# Altium footprint library A3PE1500_ProAsic3.PcbLib: 1 footprints
Each footprint in its own frame and in the unit in brackets; x right, y up, seen from the top. Pads: shape width x height; smd on the part's side, far side on the other; paste and mask are expansions set on the pad; w line width, h text height; cw(c..) or ccw(c..) is an arc to the next point about the centre after c.
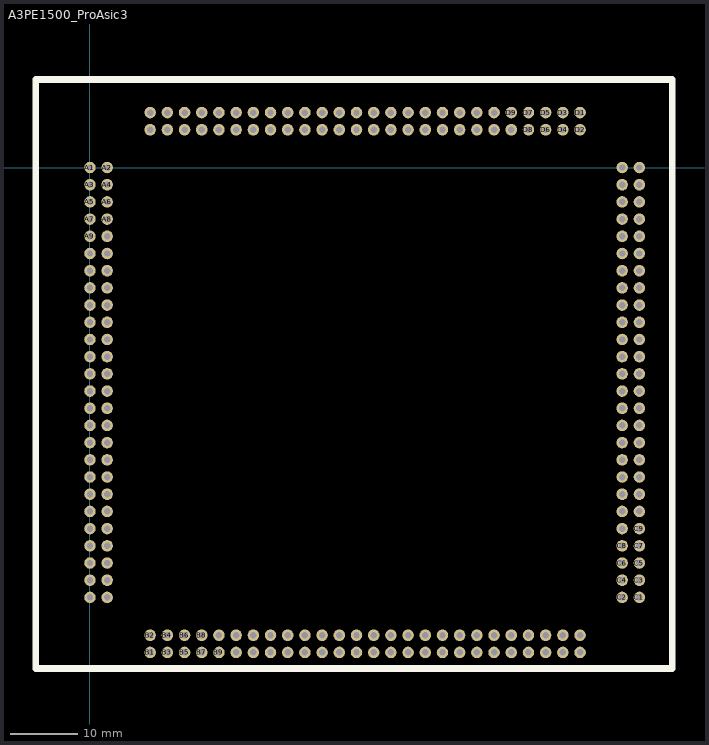
[diagram p0: the footprint, top view; thin cyan lines are the x and y axes]

## A3PE1500_ProAsic3 [mm]
pads (208):
  round 1.7 hole 0.95: A1(0,0) A2(2.54,0) A3(0,-2.54) A4(2.54,-2.54) A5(0,-5.08) A6(2.54,-5.08) A7(0,-7.62) A8(2.54,-7.62) A9(0,-10.16) A10(2.54,-10.16) A11(0,-12.7) A12(2.54,-12.7) A13(0,-15.24) A14(2.54,-15.24) A15(0,-17.78) A16(2.54,-17.78) A17(0,-20.32) A18(2.54,-20.32) A19(0,-22.86) A20(2.54,-22.86) A21(0,-25.4) A22(2.54,-25.4) A23(0,-27.94) A24(2.54,-27.94) A25(0,-30.48) A26(2.54,-30.48) A27(0,-33.02) A28(2.54,-33.02) A29(0,-35.56) A30(2.54,-35.56) A31(0,-38.1) A32(2.54,-38.1) A33(0,-40.64) A34(2.54,-40.64) A35(0,-43.18) A36(2.54,-43.18) A37(0,-45.72) A38(2.54,-45.72) A39(0,-48.26) A40(2.54,-48.26) A41(0,-50.8) A42(2.54,-50.8) A43(0,-53.34) A44(2.54,-53.34) A45(0,-55.88) A46(2.54,-55.88) A47(0,-58.42) A48(2.54,-58.42) A49(0,-60.96) A50(2.54,-60.96) A51(0,-63.5) A52(2.54,-63.5) B1(8.89,-71.628) B2(8.89,-69.088) B3(11.43,-71.628) B4(11.43,-69.088) B5(13.97,-71.628) B6(13.97,-69.088) B7(16.51,-71.628) B8(16.51,-69.088) B9(19.05,-71.628) B10(19.05,-69.088) B11(21.59,-71.628) B12(21.59,-69.088) B13(24.13,-71.628) B14(24.13,-69.088) B15(26.67,-71.628) B16(26.67,-69.088) B17(29.21,-71.628) B18(29.21,-69.088) B19(31.75,-71.628) B20(31.75,-69.088) B21(34.29,-71.628) B22(34.29,-69.088) B23(36.83,-71.628) B24(36.83,-69.088) B25(39.37,-71.628) B26(39.37,-69.088) B27(41.91,-71.628) B28(41.91,-69.088) B29(44.45,-71.628) B30(44.45,-69.088) B31(46.99,-71.628) B32(46.99,-69.088) B33(49.53,-71.628) B34(49.53,-69.088) B35(52.07,-71.628) B36(52.07,-69.088) B37(54.61,-71.628) B38(54.61,-69.088) B39(57.15,-71.628) B40(57.15,-69.088) B41(59.69,-71.628) B42(59.69,-69.088) B43(62.23,-71.628) B44(62.23,-69.088) B45(64.77,-71.628) B46(64.77,-69.088) B47(67.31,-71.628) B48(67.31,-69.088) B49(69.85,-71.628) B50(69.85,-69.088) B51(72.39,-71.628) B52(72.39,-69.088) C1(81.153,-63.5) C2(78.613,-63.5) C3(81.153,-60.96) C4(78.613,-60.96) C5(81.153,-58.42) C6(78.613,-58.42) C7(81.153,-55.88) C8(78.613,-55.88) C9(81.153,-53.34) C10(78.613,-53.34) C11(81.153,-50.8) C12(78.613,-50.8) C13(81.153,-48.26) C14(78.613,-48.26) C15(81.153,-45.72) C16(78.613,-45.72) C17(81.153,-43.18) C18(78.613,-43.18) C19(81.153,-40.64) C20(78.613,-40.64) C21(81.153,-38.1) C22(78.613,-38.1) C23(81.153,-35.56) C24(78.613,-35.56) C25(81.153,-33.02) C26(78.613,-33.02) C27(81.153,-30.48) C28(78.613,-30.48) C29(81.153,-27.94) C30(78.613,-27.94) C31(81.153,-25.4) C32(78.613,-25.4) C33(81.153,-22.86) C34(78.613,-22.86) C35(81.153,-20.32) C36(78.613,-20.32) C37(81.153,-17.78) C38(78.613,-17.78) C39(81.153,-15.24) C40(78.613,-15.24) C41(81.153,-12.7) C42(78.613,-12.7) C43(81.153,-10.16) C44(78.613,-10.16) C45(81.153,-7.62) C46(78.613,-7.62) C47(81.153,-5.08) C48(78.613,-5.08) C49(81.153,-2.54) C50(78.613,-2.54) C51(81.153,0) C52(78.613,0) D1(72.39,8.12) D2(72.39,5.58) D3(69.85,8.12) D4(69.85,5.58) D5(67.31,8.12) D6(67.31,5.58) D7(64.77,8.12) D8(64.77,5.58) D9(62.23,8.12) D10(62.23,5.58) D11(59.69,8.12) D12(59.69,5.58) D13(57.15,8.12) D14(57.15,5.58) D15(54.61,8.12) D16(54.61,5.58) D17(52.07,8.12) D18(52.07,5.58) D19(49.53,8.12) D20(49.53,5.58) D21(46.99,8.12) D22(46.99,5.58) D23(44.45,8.12) D24(44.45,5.58) D25(41.91,8.12) D26(41.91,5.58) D27(39.37,8.12) D28(39.37,5.58) D29(36.83,8.12) D30(36.83,5.58) D31(34.29,8.12) D32(34.29,5.58) D33(31.75,8.12) D34(31.75,5.58) D35(29.21,8.12) D36(29.21,5.58) D37(26.67,8.12) D38(26.67,5.58) D39(24.13,8.12) D40(24.13,5.58) D41(21.59,8.12) D42(21.59,5.58) D43(19.05,8.12) D44(19.05,5.58) D45(16.51,8.12) D46(16.51,5.58) D47(13.97,8.12) D48(13.97,5.58) D49(11.43,8.12) D50(11.43,5.58) D51(8.89,8.12) D52(8.89,5.58)
Top Overlay:
  lines w1: 86,-74 -8,-74 -8,13 -3.048,13 86,13 86,-73.787